# EAGLE library part MP2672A (library added_parts)
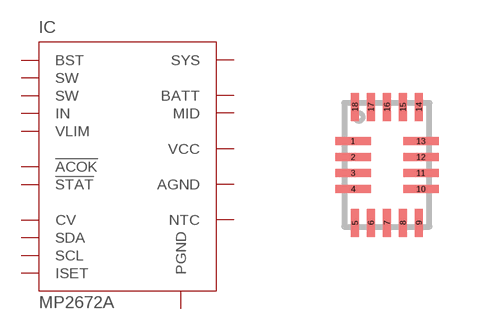
[diagram p30: symbol with the pads of MP2672A; footprint MP2672A]

Designator prefix IC

## MP2672AGD  [MP2672A]
1  IN  pwr
2  SW  pwr
3  BST  pwr
4  VCC  sup
5  ISET  pas
6  AGND  pwr
7  VLIM  in
8  NTC  pas
9  MID  pas
10  BATT  pas
11  SYS  sup
12  SW  pwr
13  PGND  pwr
14  SCL  in
15  SDA
16  !STAT  oc
17  CV  pas
18  !ACOK  oc

## Footprint MP2672A (pad centres in mm)
smd 0.889 x 0.203: 1 -0.85,0.6; 2 -0.85,0.2; 3 -0.85,-0.2; 4 -0.85,-0.6; 10 0.85,-0.6; 11 0.85,-0.2; 12 0.85,0.2; 13 0.85,0.6
smd 0.203 x 0.711: 5 -0.8,-1.45; 6 -0.4,-1.45; 7 0,-1.45; 8 0.4,-1.45; 9 0.8,-1.45; 14 0.8,1.45; 15 0.4,1.45; 16 0,1.45; 17 -0.4,1.45; 18 -0.8,1.45